# EAGLE library part TXS0102 (library Traficon)
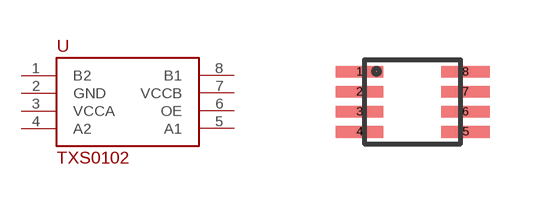
[diagram p239: symbol with the pads of TI_PSOP_DCU; footprint TI_PSOP_DCU]

Designator prefix U

## TXS0102  [TI_PSOP_DCU]
1  B2
2  GND  sup
3  VCCA  sup
4  A2
5  A1
6  OE  in
7  VCCB  sup
8  B1

## Footprint TI_PSOP_DCU (pad centres in mm)
smd 1.2 x 0.3: 1 -1.325,0.75; 2 -1.325,0.25; 3 -1.325,-0.25; 4 -1.325,-0.75; 5 1.325,-0.75; 6 1.325,-0.25; 7 1.325,0.25; 8 1.325,0.75